# Altium integrated library Capacitor - Ceramic - Sumsung.IntLib: 1421 symbols (part 21 of 22)
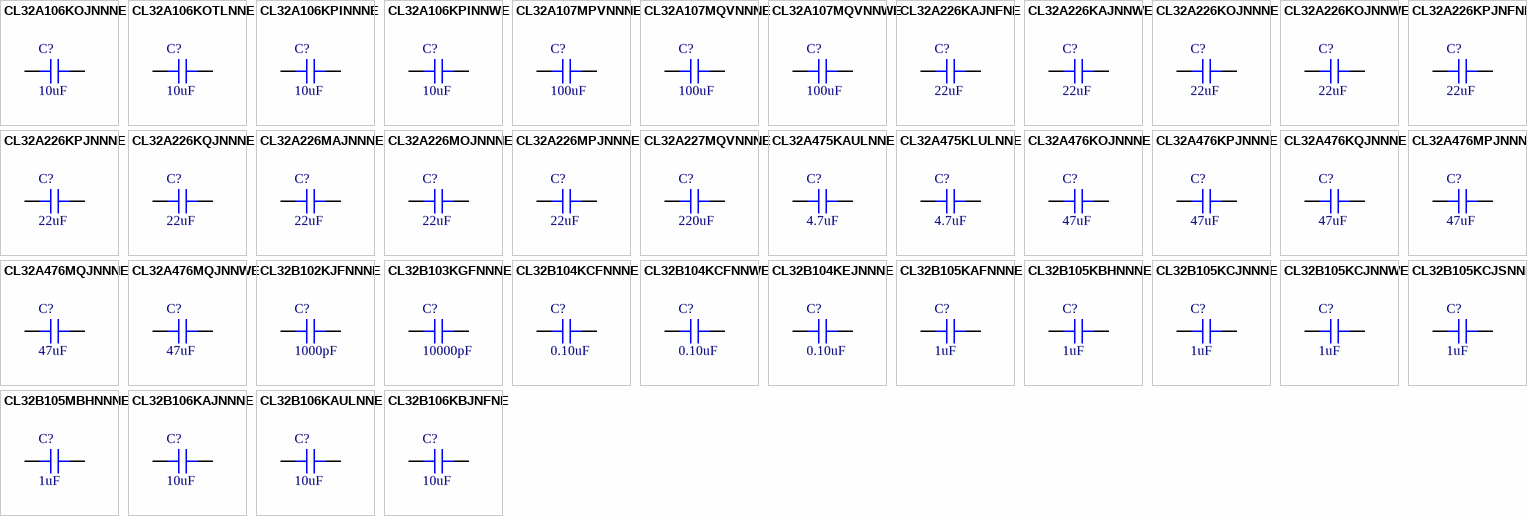
[diagram p55: symbols CL32A106KOJNNNE to CL32B106KBJNFNE]

## CL32A226KAJNNWE
designator C?, comment 22uF
CAP CER 22UF 25V X5R 1210; Part Number: CL32A226KAJNNWE; Manufacturer: Samsung Electro-Mechanics America, Inc.; TemperatureRange: -55C ~ 85C; Tolerance: 10%; Value: 22uF; PartId: 19272; Supplier 1: Digi-Key; Supplier Part Number 1: 1276-3369-2-ND; ComponentLink1Description: Datasheet; ComponentLink1URL: http://www.samsungsem.com/kr/front/downloadcms.do?path=/kr/support/product-search/mlcc/__icsFiles/afieldfile/2014/11/05&fileName=C_CL32A226KAJNNWE.pdf; ComponentLink2Description: Digi-Key Listing; ComponentLink2URL: https://www.digikey.com/product-detail/en/samsung-electro-mechanics-america-inc/CL32A226KAJNNWE/1276-3369-2-ND/3889027; TemperatureCoefficient: X5R; Voltage: 25V; Price: 0.243; Device Package: 1210 (3225 Metric)
footprint CAP 1210/3225 - 2.8MM
pins: 1, 2

## CL32A226KOJNNNE
designator C?, comment 22uF
CAP CER 22UF 16V X5R 1210; Part Number: CL32A226KOJNNNE; Manufacturer: Samsung Electro-Mechanics America, Inc.; TemperatureRange: -55C ~ 85C; Tolerance: 10%; Value: 22uF; PartId: 19198; Supplier 1: Digi-Key; Supplier Part Number 1: 1276-1058-2-ND; ComponentLink1Description: Datasheet; ComponentLink1URL: http://www.samsungsem.com/kr/support/product-search/mlcc/__icsFiles/afieldfile/2016/08/18/S_CL32A226KOJNNNE.pdf; ComponentLink2Description: Digi-Key Listing; ComponentLink2URL: https://www.digikey.com/product-detail/en/samsung-electro-mechanics-america-inc/CL32A226KOJNNNE/1276-1058-2-ND/3886716; TemperatureCoefficient: X5R; Voltage: 16V; Price: 0.243; Device Package: 1210 (3225 Metric)
footprint CAP 1210/3225 - 2.8MM
pins: 1, 2

## CL32A226KOJNNWE
designator C?, comment 22uF
CAP CER 22UF 16V X5R 1210; Part Number: CL32A226KOJNNWE; Manufacturer: Samsung Electro-Mechanics America, Inc.; TemperatureRange: -55C ~ 85C; Tolerance: 10%; Value: 22uF; PartId: 19345; Supplier 1: Digi-Key; Supplier Part Number 1: 1276-3370-2-ND; ComponentLink1Description: Datasheet; ComponentLink1URL: http://www.samsungsem.com/kr/front/downloadcms.do?path=/kr/support/product-search/mlcc/__icsFiles/afieldfile/2014/11/05&fileName=C_CL32A226KOJNNWE.pdf; ComponentLink2Description: Digi-Key Listing; ComponentLink2URL: https://www.digikey.com/product-detail/en/samsung-electro-mechanics-america-inc/CL32A226KOJNNWE/1276-3370-2-ND/3889028; TemperatureCoefficient: X5R; Voltage: 16V; Price: 0.243; Device Package: 1210 (3225 Metric)
footprint CAP 1210/3225 - 2.8MM
pins: 1, 2

## CL32A226KPJNFNE
designator C?, comment 22uF
CAP CER 22UF 10V X5R 1210; Part Number: CL32A226KPJNFNE; Manufacturer: Samsung Electro-Mechanics America, Inc.; TemperatureRange: -55C ~ 85C; Tolerance: 10%; Value: 22uF; PartId: 19343; Supplier 1: Digi-Key; Supplier Part Number 1: 1276-3371-2-ND; ComponentLink1Description: Datasheet; ComponentLink1URL: http://www.samsungsem.com/kr/front/downloadcms.do?path=/kr/support/product-search/mlcc/__icsFiles/afieldfile/2014/11/05&fileName=C_CL32A226KPJNFNE.pdf; ComponentLink2Description: Digi-Key Listing; ComponentLink2URL: https://www.digikey.com/product-detail/en/samsung-electro-mechanics-america-inc/CL32A226KPJNFNE/1276-3371-2-ND/3889029; TemperatureCoefficient: X5R; Voltage: 10V; Price: 0.243; Device Package: 1210 (3225 Metric)
footprint CAP 1210/3225 - 2.8MM
pins: 1, 2

## CL32A226KPJNNNE
designator C?, comment 22uF
CAP CER 22UF 10V X5R 1210; Part Number: CL32A226KPJNNNE; Manufacturer: Samsung Electro-Mechanics America, Inc.; TemperatureRange: -55C ~ 85C; Tolerance: 10%; Value: 22uF; PartId: 19273; Supplier 1: Digi-Key; Supplier Part Number 1: 1276-3372-2-ND; ComponentLink1Description: Datasheet; ComponentLink1URL: http://www.samsungsem.com/kr/front/downloadcms.do?path=/kr/support/product-search/mlcc/__icsFiles/afieldfile/2014/11/05&fileName=C_CL32A226KPJNNNE.pdf; ComponentLink2Description: Digi-Key Listing; ComponentLink2URL: https://www.digikey.com/product-detail/en/samsung-electro-mechanics-america-inc/CL32A226KPJNNNE/1276-3372-2-ND/3889030; TemperatureCoefficient: X5R; Voltage: 10V; Price: 0.243; Device Package: 1210 (3225 Metric)
footprint CAP 1210/3225 - 2.8MM
pins: 1, 2

## CL32A226KQJNNNE
designator C?, comment 22uF
CAP CER 22UF 6.3V X5R 1210; Part Number: CL32A226KQJNNNE; Manufacturer: Samsung Electro-Mechanics America, Inc.; TemperatureRange: -55C ~ 85C; Tolerance: 10%; Value: 22uF; PartId: 19346; Supplier 1: Digi-Key; Supplier Part Number 1: 1276-2886-2-ND; ComponentLink1Description: Datasheet; ComponentLink1URL: //media.digikey.com/pdf/Data%20Sheets/Samsung%20PDFs/CL32A226KQJNNNE_Spec.pdf; ComponentLink2Description: Digi-Key Listing; ComponentLink2URL: https://www.digikey.com/product-detail/en/samsung-electro-mechanics-america-inc/CL32A226KQJNNNE/1276-2886-2-ND/3888544; TemperatureCoefficient: X5R; Voltage: 6.3V; Price: 0.243; Device Package: 1210 (3225 Metric)
footprint CAP 1210/3225 - 2.8MM
pins: 1, 2

## CL32A226MAJNNNE
designator C?, comment 22uF
CAP CER 22UF 25V X5R 1210; Part Number: CL32A226MAJNNNE; Manufacturer: Samsung Electro-Mechanics America, Inc.; TemperatureRange: -55C ~ 85C; Tolerance: 20%; Value: 22uF; PartId: 19199; Supplier 1: Digi-Key; Supplier Part Number 1: 1276-3373-2-ND; ComponentLink1Description: Datasheet; ComponentLink1URL: http://www.samsungsem.com/kr/front/downloadcms.do?path=/kr/support/product-search/mlcc/__icsFiles/afieldfile/2014/11/05&fileName=C_CL32A226MAJNNNE.pdf; ComponentLink2Description: Digi-Key Listing; ComponentLink2URL: https://www.digikey.com/product-detail/en/samsung-electro-mechanics-america-inc/CL32A226MAJNNNE/1276-3373-2-ND/3889031; TemperatureCoefficient: X5R; Voltage: 25V; Price: 0.243; Device Package: 1210 (3225 Metric)
footprint CAP 1210/3225 - 2.8MM
pins: 1, 2

## CL32A226MOJNNNE
designator C?, comment 22uF
CAP CER 22UF 16V X5R 1210; Part Number: CL32A226MOJNNNE; Manufacturer: Samsung Electro-Mechanics America, Inc.; TemperatureRange: -55C ~ 85C; Tolerance: 20%; Value: 22uF; PartId: 19270; Supplier 1: Digi-Key; Supplier Part Number 1: 1276-1851-2-ND; ComponentLink1Description: Datasheet; ComponentLink1URL: http://www.samsungsem.com/kr/front/downloadcms.do?path=/kr/support/product-search/mlcc/__icsFiles/afieldfile/2014/11/05&fileName=C_CL32A226MOJNNNE.pdf; ComponentLink2Description: Digi-Key Listing; ComponentLink2URL: https://www.digikey.com/product-detail/en/samsung-electro-mechanics-america-inc/CL32A226MOJNNNE/1276-1851-2-ND/3887509; TemperatureCoefficient: X5R; Voltage: 16V; Price: 0.2428; Device Package: 1210 (3225 Metric)
footprint CAP 1210/3225 - 2.8MM
pins: 1, 2

## CL32A226MPJNNNE
designator C?, comment 22uF
CAP CER 22UF 10V X5R 1210; Part Number: CL32A226MPJNNNE; Manufacturer: Samsung Electro-Mechanics America, Inc.; TemperatureRange: -55C ~ 85C; Tolerance: 20%; Value: 22uF; PartId: 19269; Supplier 1: Digi-Key; Supplier Part Number 1: 1276-3361-2-ND; ComponentLink1Description: Datasheet; ComponentLink1URL: http://www.samsungsem.com/kr/front/downloadcms.do?path=/kr/support/product-search/mlcc/__icsFiles/afieldfile/2014/11/05&fileName=C_CL32A226MPJNNNE.pdf; ComponentLink2Description: Digi-Key Listing; ComponentLink2URL: https://www.digikey.com/product-detail/en/samsung-electro-mechanics-america-inc/CL32A226MPJNNNE/1276-3361-2-ND/3889019; TemperatureCoefficient: X5R; Voltage: 10V; Price: 0.2302; Device Package: 1210 (3225 Metric)
footprint CAP 1210/3225 - 2.8MM
pins: 1, 2

## CL32A227MQVNNNE
designator C?, comment 220uF
CAP CER 220UF 6.3V X5R 1210; Part Number: CL32A227MQVNNNE; Manufacturer: Samsung Electro-Mechanics America, Inc.; TemperatureRange: -55C ~ 85C; Tolerance: 20%; Value: 220uF; PartId: 19162; Supplier 1: Digi-Key; Supplier Part Number 1: 1276-3375-2-ND; ComponentLink1Description: Datasheet; ComponentLink1URL: http://www.samsungsem.com/kr/support/product-search/mlcc/__icsFiles/afieldfile/2016/08/18/S_CL32A227MQVNNNE.pdf; ComponentLink2Description: Digi-Key Listing; ComponentLink2URL: https://www.digikey.com/product-detail/en/samsung-electro-mechanics-america-inc/CL32A227MQVNNNE/1276-3375-2-ND/3889033; TemperatureCoefficient: X5R; Voltage: 6.3V; Price: 0.7439; Device Package: 1210 (3225 Metric)
footprint CAP 1210/3225 - 2.8MM
pins: 1, 2

## CL32A475KAULNNE
designator C?, comment 4.7uF
CAP CER 4.7UF 25V X5R 1210; Part Number: CL32A475KAULNNE; Manufacturer: Samsung Electro-Mechanics America, Inc.; TemperatureRange: -55C ~ 85C; Tolerance: 10%; Value: 4.7uF; PartId: 18605; Supplier 1: Digi-Key; Supplier Part Number 1: 1276-3314-2-ND; ComponentLink1Description: Datasheet; ComponentLink1URL: http://www.samsungsem.com/kr/front/downloadcms.do?path=/kr/support/product-search/mlcc/__icsFiles/afieldfile/2014/11/05&fileName=C_CL32A475KAULNNE.pdf; ComponentLink2Description: Digi-Key Listing; ComponentLink2URL: https://www.digikey.com/product-detail/en/samsung-electro-mechanics-america-inc/CL32A475KAULNNE/1276-3314-2-ND/3888972; TemperatureCoefficient: X5R; Voltage: 25V; Price: 0.2289; Device Package: 1210 (3225 Metric)
footprint CAP 1210/3225 - 2.0MM
pins: 1, 2

## CL32A475KLULNNE
designator C?, comment 4.7uF
CAP CER 4.7UF 35V X5R 1210; Part Number: CL32A475KLULNNE; Manufacturer: Samsung Electro-Mechanics America, Inc.; TemperatureRange: -55C ~ 85C; Tolerance: 10%; Value: 4.7uF; PartId: 18586; Supplier 1: Digi-Key; Supplier Part Number 1: 1276-3315-2-ND; ComponentLink1Description: Datasheet; ComponentLink1URL: http://www.samsungsem.com/kr/front/downloadcms.do?path=/kr/support/product-search/mlcc/__icsFiles/afieldfile/2014/11/05&fileName=C_CL32A475KLULNNE.pdf; ComponentLink2Description: Digi-Key Listing; ComponentLink2URL: https://www.digikey.com/product-detail/en/samsung-electro-mechanics-america-inc/CL32A475KLULNNE/1276-3315-2-ND/3888973; TemperatureCoefficient: X5R; Voltage: 35V; Price: 0.1379; Device Package: 1210 (3225 Metric)
footprint CAP 1210/3225 - 2.0MM
pins: 1, 2

## CL32A476KOJNNNE
designator C?, comment 47uF
CAP CER 47UF 16V X5R 1210; Part Number: CL32A476KOJNNNE; Manufacturer: Samsung Electro-Mechanics America, Inc.; TemperatureRange: -55C ~ 85C; Tolerance: 10%; Value: 47uF; PartId: 19122; Supplier 1: Digi-Key; Supplier Part Number 1: 1276-3376-2-ND; ComponentLink1Description: Datasheet; ComponentLink1URL: http://www.samsungsem.com/kr/front/downloadcms.do?path=/kr/support/product-search/mlcc/__icsFiles/afieldfile/2014/11/05&fileName=C_CL32A476KOJNNNE.pdf; ComponentLink2Description: Digi-Key Listing; ComponentLink2URL: https://www.digikey.com/product-detail/en/samsung-electro-mechanics-america-inc/CL32A476KOJNNNE/1276-3376-2-ND/3889034; TemperatureCoefficient: X5R; Voltage: 16V; Price: 0.4804; Device Package: 1210 (3225 Metric)
footprint CAP 1210/3225 - 2.8MM
pins: 1, 2

## CL32A476KPJNNNE
designator C?, comment 47uF
CAP CER 47UF 10V X5R 1210; Part Number: CL32A476KPJNNNE; Manufacturer: Samsung Electro-Mechanics America, Inc.; TemperatureRange: -55C ~ 85C; Tolerance: 10%; Value: 47uF; PartId: 19223; Supplier 1: Digi-Key; Supplier Part Number 1: 1276-3377-2-ND; ComponentLink1Description: Datasheet; ComponentLink1URL: http://www.samsungsem.com/kr/front/downloadcms.do?path=/kr/support/product-search/mlcc/__icsFiles/afieldfile/2014/11/05&fileName=C_CL32A476KPJNNNE.pdf; ComponentLink2Description: Digi-Key Listing; ComponentLink2URL: https://www.digikey.com/product-detail/en/samsung-electro-mechanics-america-inc/CL32A476KPJNNNE/1276-3377-2-ND/3889035; TemperatureCoefficient: X5R; Voltage: 10V; Price: 0.3868; Device Package: 1210 (3225 Metric)
footprint CAP 1210/3225 - 2.8MM
pins: 1, 2

## CL32A476KQJNNNE
designator C?, comment 47uF
CAP CER 47UF 6.3V X5R 1210; Part Number: CL32A476KQJNNNE; Manufacturer: Samsung Electro-Mechanics America, Inc.; TemperatureRange: -55C ~ 85C; Tolerance: 10%; Value: 47uF; PartId: 19370; Supplier 1: Digi-Key; Supplier Part Number 1: 1276-3379-2-ND; ComponentLink1Description: Datasheet; ComponentLink1URL: http://www.samsungsem.com/kr/front/downloadcms.do?path=/kr/support/product-search/mlcc/__icsFiles/afieldfile/2014/11/05&fileName=C_CL32A476KQJNNNE.pdf; ComponentLink2Description: Digi-Key Listing; ComponentLink2URL: https://www.digikey.com/product-detail/en/samsung-electro-mechanics-america-inc/CL32A476KQJNNNE/1276-3379-2-ND/3889037; TemperatureCoefficient: X5R; Voltage: 6.3V; Price: 0.4277; Device Package: 1210 (3225 Metric)
footprint CAP 1210/3225 - 2.8MM
pins: 1, 2

## CL32A476MPJNNNE
designator C?, comment 47uF
CAP CER 47UF 10V X5R 1210; Part Number: CL32A476MPJNNNE; Manufacturer: Samsung Electro-Mechanics America, Inc.; TemperatureRange: -55C ~ 85C; Tolerance: 20%; Value: 47uF; PartId: 19094; Supplier 1: Digi-Key; Supplier Part Number 1: 1276-3380-2-ND; ComponentLink1Description: Datasheet; ComponentLink1URL: http://www.samsungsem.com/kr/front/downloadcms.do?path=/kr/support/product-search/mlcc/__icsFiles/afieldfile/2014/11/05&fileName=C_CL32A476MPJNNNE.pdf; ComponentLink2Description: Digi-Key Listing; ComponentLink2URL: https://www.digikey.com/product-detail/en/samsung-electro-mechanics-america-inc/CL32A476MPJNNNE/1276-3380-2-ND/3889038; TemperatureCoefficient: X5R; Voltage: 10V; Price: 0.3611; Device Package: 1210 (3225 Metric)
footprint CAP 1210/3225 - 2.8MM
pins: 1, 2

## CL32A476MQJNNNE
designator C?, comment 47uF
CAP CER 47UF 6.3V X5R 1210; Part Number: CL32A476MQJNNNE; Manufacturer: Samsung Electro-Mechanics America, Inc.; TemperatureRange: -55C ~ 85C; Tolerance: 20%; Value: 47uF; PartId: 19211; Supplier 1: Digi-Key; Supplier Part Number 1: 1276-3381-2-ND; ComponentLink1Description: Datasheet; ComponentLink1URL: http://www.samsungsem.com/kr/front/downloadcms.do?path=/kr/support/product-search/mlcc/__icsFiles/afieldfile/2014/11/05&fileName=C_CL32A476MQJNNNE.pdf; ComponentLink2Description: Digi-Key Listing; ComponentLink2URL: https://www.digikey.com/product-detail/en/samsung-electro-mechanics-america-inc/CL32A476MQJNNNE/1276-3381-2-ND/3889039; TemperatureCoefficient: X5R; Voltage: 6.3V; Price: 0.337; Device Package: 1210 (3225 Metric)
footprint CAP 1210/3225 - 2.8MM
pins: 1, 2

## CL32A476MQJNNWE
designator C?, comment 47uF
CAP CER 47UF 6.3V X5R 1210; Part Number: CL32A476MQJNNWE; Manufacturer: Samsung Electro-Mechanics America, Inc.; TemperatureRange: -55C ~ 85C; Tolerance: 20%; Value: 47uF; PartId: 19360; Supplier 1: Digi-Key; Supplier Part Number 1: 1276-3382-2-ND; ComponentLink1Description: Datasheet; ComponentLink1URL: http://www.samsungsem.com/kr/front/downloadcms.do?path=/kr/support/product-search/mlcc/__icsFiles/afieldfile/2014/11/05&fileName=C_CL32A476MQJNNWE.pdf; ComponentLink2Description: Digi-Key Listing; ComponentLink2URL: https://www.digikey.com/product-detail/en/samsung-electro-mechanics-america-inc/CL32A476MQJNNWE/1276-3382-2-ND/3889040; TemperatureCoefficient: X5R; Voltage: 6.3V; Price: 0.337; Device Package: 1210 (3225 Metric)
footprint CAP 1210/3225 - 2.8MM
pins: 1, 2

## CL32B102KJFNNNE
designator C?, comment 1000pF
CAP CER 1000PF 2KV X7R 1210; Part Number: CL32B102KJFNNNE; Manufacturer: Samsung Electro-Mechanics America, Inc.; TemperatureRange: -55C ~ 125C; Tolerance: 10%; Voltage: 2000V (2kV); Value: 1000pF; PartId: 18297; Supplier 1: Digi-Key; Supplier Part Number 1: 1276-3316-2-ND; ComponentLink1Description: Datasheet; ComponentLink1URL: http://www.samsungsem.com/kr/front/downloadcms.do?path=/kr/support/product-search/mlcc/__icsFiles/afieldfile/2014/11/05&fileName=C_CL32B102KJFNNNE.pdf; ComponentLink2Description: Digi-Key Listing; ComponentLink2URL: https://www.digikey.com/product-detail/en/samsung-electro-mechanics-america-inc/CL32B102KJFNNNE/1276-3316-2-ND/3888974; TemperatureCoefficient: X7R; Price: 0.1069; Device Package: 1210 (3225 Metric)
footprint CAP 1210/3225 - 1.6MM
pins: 1, 2

## CL32B103KGFNNNE
designator C?, comment 10000pF
CAP CER 10000PF 500V X7R 1210; Part Number: CL32B103KGFNNNE; Manufacturer: Samsung Electro-Mechanics America, Inc.; TemperatureRange: -55C ~ 125C; Tolerance: 10%; Value: 10000pF; PartId: 18322; Supplier 1: Digi-Key; Supplier Part Number 1: 1276-3317-2-ND; ComponentLink1Description: Datasheet; ComponentLink1URL: //media.digikey.com/pdf/Data%20Sheets/Samsung%20PDFs/MLCC_Catalog_2015.pdf; ComponentLink2Description: Digi-Key Listing; ComponentLink2URL: https://www.digikey.com/product-detail/en/samsung-electro-mechanics-america-inc/CL32B103KGFNNNE/1276-3317-2-ND/3888975; TemperatureCoefficient: X7R; Voltage: 500V; Price: 0.1732; Device Package: 1210 (3225 Metric)
footprint CAP 1210/3225 - 1.6MM
pins: 1, 2

## CL32B104KCFNNNE
designator C?, comment 0.10uF
CAP CER 0.1UF 100V X7R 1210; Part Number: CL32B104KCFNNNE; Manufacturer: Samsung Electro-Mechanics America, Inc.; TemperatureRange: -55C ~ 125C; Tolerance: 10%; Value: 0.10uF; PartId: 18313; Supplier 1: Digi-Key; Supplier Part Number 1: 1276-1810-2-ND; ComponentLink1Description: Datasheet; ComponentLink1URL: //media.digikey.com/pdf/Data%20Sheets/Samsung%20PDFs/MLCC_Catalog_2015.pdf; ComponentLink2Description: Digi-Key Listing; ComponentLink2URL: https://www.digikey.com/product-detail/en/samsung-electro-mechanics-america-inc/CL32B104KCFNNNE/1276-1810-2-ND/3887468; TemperatureCoefficient: X7R; Voltage: 100V; Price: 0.1022; Device Package: 1210 (3225 Metric)
footprint CAP 1210/3225 - 1.6MM
pins: 1, 2

## CL32B104KCFNNWE
designator C?, comment 0.10uF
CAP CER 0.1UF 100V X7R 1210; Part Number: CL32B104KCFNNWE; Manufacturer: Samsung Electro-Mechanics America, Inc.; TemperatureRange: -55C ~ 125C; Tolerance: 10%; Value: 0.10uF; PartId: 18335; Supplier 1: Digi-Key; Supplier Part Number 1: 1276-3319-2-ND; ComponentLink1Description: Datasheet; ComponentLink1URL: //media.digikey.com/pdf/Data%20Sheets/Samsung%20PDFs/MLCC_Catalog_2015.pdf; ComponentLink2Description: Digi-Key Listing; ComponentLink2URL: https://www.digikey.com/product-detail/en/samsung-electro-mechanics-america-inc/CL32B104KCFNNWE/1276-3319-2-ND/3888977; TemperatureCoefficient: X7R; Voltage: 100V; Price: 0.1022; Device Package: 1210 (3225 Metric)
footprint CAP 1210/3225 - 1.6MM
pins: 1, 2

## CL32B104KEJNNNE
designator C?, comment 0.10uF
CAP CER 0.1UF 250V X7R 1210; Part Number: CL32B104KEJNNNE; Manufacturer: Samsung Electro-Mechanics America, Inc.; TemperatureRange: -55C ~ 125C; Tolerance: 10%; Value: 0.10uF; PartId: 19331; Supplier 1: Digi-Key; Supplier Part Number 1: 1276-3383-2-ND; ComponentLink1Description: Datasheet; ComponentLink1URL: http://www.samsungsem.com/kr/front/downloadcms.do?path=/kr/support/product-search/mlcc/__icsFiles/afieldfile/2014/11/05&fileName=C_CL32B104KEJNNNE.pdf; ComponentLink2Description: Digi-Key Listing; ComponentLink2URL: https://www.digikey.com/product-detail/en/samsung-electro-mechanics-america-inc/CL32B104KEJNNNE/1276-3383-2-ND/3889041; TemperatureCoefficient: X7R; Voltage: 250V; Price: 0.1383; Device Package: 1210 (3225 Metric)
footprint CAP 1210/3225 - 2.8MM
pins: 1, 2

## CL32B105KAFNNNE
designator C?, comment 1uF
CAP CER 1UF 25V X7R 1210; Part Number: CL32B105KAFNNNE; Manufacturer: Samsung Electro-Mechanics America, Inc.; TemperatureRange: -55C ~ 125C; Tolerance: 10%; Value: 1uF; PartId: 18295; Supplier 1: Digi-Key; Supplier Part Number 1: 1276-1850-2-ND; ComponentLink1Description: Datasheet; ComponentLink1URL: http://www.samsungsem.com/kr/front/downloadcms.do?path=/kr/support/product-search/mlcc/__icsFiles/afieldfile/2014/11/05&fileName=C_CL32B105KAFNNNE.pdf; ComponentLink2Description: Digi-Key Listing; ComponentLink2URL: https://www.digikey.com/product-detail/en/samsung-electro-mechanics-america-inc/CL32B105KAFNNNE/1276-1850-2-ND/3887508; TemperatureCoefficient: X7R; Voltage: 25V; Price: 0.0933; Device Package: 1210 (3225 Metric)
footprint CAP 1210/3225 - 1.6MM
pins: 1, 2

## CL32B105KBHNNNE
designator C?, comment 1uF
CAP CER 1UF 50V X7R 1210; Part Number: CL32B105KBHNNNE; Manufacturer: Samsung Electro-Mechanics America, Inc.; TemperatureRange: -55C ~ 125C; Tolerance: 10%; Value: 1uF; PartId: 18429; Supplier 1: Digi-Key; Supplier Part Number 1: 1276-1811-2-ND; ComponentLink1Description: Datasheet; ComponentLink1URL: //media.digikey.com/pdf/Data%20Sheets/Samsung%20PDFs/MLCC_Catalog_2015.pdf; ComponentLink2Description: Digi-Key Listing; ComponentLink2URL: https://www.digikey.com/product-detail/en/samsung-electro-mechanics-america-inc/CL32B105KBHNNNE/1276-1811-2-ND/3887469; TemperatureCoefficient: X7R; Voltage: 50V; Price: 0.0978; Device Package: 1210 (3225 Metric)
footprint CAP 1210/3225 - 1.8MM
pins: 1, 2

## CL32B105KCJNNNE
designator C?, comment 1uF
CAP CER 1UF 100V X7R 1210; Part Number: CL32B105KCJNNNE; Manufacturer: Samsung Electro-Mechanics America, Inc.; TemperatureRange: -55C ~ 125C; Tolerance: 10%; Value: 1uF; PartId: 19189; Supplier 1: Digi-Key; Supplier Part Number 1: 1276-1812-2-ND; ComponentLink1Description: Datasheet; ComponentLink1URL: http://www.samsungsem.com/kr/front/downloadcms.do?path=/kr/support/product-search/mlcc/__icsFiles/afieldfile/2014/11/05&fileName=C_CL32B105KCJNNNE.pdf; ComponentLink2Description: Digi-Key Listing; ComponentLink2URL: https://www.digikey.com/product-detail/en/samsung-electro-mechanics-america-inc/CL32B105KCJNNNE/1276-1812-2-ND/3887470; TemperatureCoefficient: X7R; Voltage: 100V; Price: 0.1875; Device Package: 1210 (3225 Metric)
footprint CAP 1210/3225 - 2.8MM
pins: 1, 2

## CL32B105KCJNNWE
designator C?, comment 1uF
CAP CER 1UF 100V X7R 1210; Part Number: CL32B105KCJNNWE; Manufacturer: Samsung Electro-Mechanics America, Inc.; TemperatureRange: -55C ~ 125C; Tolerance: 10%; Value: 1uF; PartId: 19336; Supplier 1: Digi-Key; Supplier Part Number 1: 1276-3384-2-ND; ComponentLink1Description: Datasheet; ComponentLink1URL: http://www.samsungsem.com/kr/front/downloadcms.do?path=/kr/support/product-search/mlcc/__icsFiles/afieldfile/2014/11/05&fileName=C_CL32B105KCJNNWE.pdf; ComponentLink2Description: Digi-Key Listing; ComponentLink2URL: https://www.digikey.com/product-detail/en/samsung-electro-mechanics-america-inc/CL32B105KCJNNWE/1276-3384-2-ND/3889042; TemperatureCoefficient: X7R; Voltage: 100V; Price: 0.1875; Device Package: 1210 (3225 Metric)
footprint CAP 1210/3225 - 2.8MM
pins: 1, 2

## CL32B105KCJSNNE
designator C?, comment 1uF
CAP CER 1UF 100V X7R 1210; Part Number: CL32B105KCJSNNE; Manufacturer: Samsung Electro-Mechanics America, Inc.; TemperatureRange: -55C ~ 125C; Tolerance: 10%; Value: 1uF; PartId: 19266; Supplier 1: Digi-Key; Supplier Part Number 1: 1276-2883-2-ND; ComponentLink1Description: Datasheet; ComponentLink1URL: //media.digikey.com/pdf/Data%20Sheets/Samsung%20PDFs/CL32B105KCJSNNE_Spec.pdf; ComponentLink2Description: Digi-Key Listing; ComponentLink2URL: https://www.digikey.com/product-detail/en/samsung-electro-mechanics-america-inc/CL32B105KCJSNNE/1276-2883-2-ND/3888541; TemperatureCoefficient: X7R; Voltage: 100V; Price: 0.1875; Device Package: 1210 (3225 Metric)
footprint CAP 1210/3225 - 2.8MM
pins: 1, 2

## CL32B105MBHNNNE
designator C?, comment 1uF
CAP CER 1UF 50V X7R 1210; Part Number: CL32B105MBHNNNE; Manufacturer: Samsung Electro-Mechanics America, Inc.; TemperatureRange: -55C ~ 125C; Tolerance: 20%; Value: 1uF; PartId: 18549; Supplier 1: Digi-Key; Supplier Part Number 1: 1276-3321-2-ND; ComponentLink1Description: Datasheet; ComponentLink1URL: http://www.samsungsem.com/kr/front/downloadcms.do?path=/kr/support/product-search/mlcc/__icsFiles/afieldfile/2014/11/05&fileName=C_CL32B105MBHNNNE.pdf; ComponentLink2Description: Digi-Key Listing; ComponentLink2URL: https://www.digikey.com/product-detail/en/samsung-electro-mechanics-america-inc/CL32B105MBHNNNE/1276-3321-2-ND/3888979; TemperatureCoefficient: X7R; Voltage: 50V; Price: 0.0784; Device Package: 1210 (3225 Metric)
footprint CAP 1210/3225 - 1.8MM
pins: 1, 2

## CL32B106KAJNNNE
designator C?, comment 10uF
CAP CER 10UF 25V X7R 1210; Part Number: CL32B106KAJNNNE; Manufacturer: Samsung Electro-Mechanics America, Inc.; TemperatureRange: -55C ~ 125C; Tolerance: 10%; Value: 10uF; PartId: 19187; Supplier 1: Digi-Key; Supplier Part Number 1: 1276-1807-2-ND; ComponentLink1Description: Datasheet; ComponentLink1URL: http://www.samsungsem.com/kr/front/downloadcms.do?path=/kr/support/product-search/mlcc/__icsFiles/afieldfile/2014/11/05&fileName=C_CL32B106KAJNNNE.pdf; ComponentLink2Description: Digi-Key Listing; ComponentLink2URL: https://www.digikey.com/product-detail/en/samsung-electro-mechanics-america-inc/CL32B106KAJNNNE/1276-1807-2-ND/3887465; TemperatureCoefficient: X7R; Voltage: 25V; Price: 0.1715; Device Package: 1210 (3225 Metric)
footprint CAP 1210/3225 - 2.8MM
pins: 1, 2

## CL32B106KAULNNE
designator C?, comment 10uF
CAP CER 10UF 25V X7R 1210; Part Number: CL32B106KAULNNE; Manufacturer: Samsung Electro-Mechanics America, Inc.; TemperatureRange: -55C ~ 125C; Tolerance: 10%; Value: 10uF; PartId: 18574; Supplier 1: Digi-Key; Supplier Part Number 1: 1276-3322-2-ND; ComponentLink1Description: Datasheet; ComponentLink1URL: http://www.samsungsem.com/kr/support/product-search/mlcc/__icsFiles/afieldfile/2016/08/18/S_CL32B106KAULNNE.pdf; ComponentLink2Description: Digi-Key Listing; ComponentLink2URL: https://www.digikey.com/product-detail/en/samsung-electro-mechanics-america-inc/CL32B106KAULNNE/1276-3322-2-ND/3888980; TemperatureCoefficient: X7R; Voltage: 25V; Price: 0.1625; Device Package: 1210 (3225 Metric)
footprint CAP 1210/3225 - 2.0MM
pins: 1, 2

## CL32B106KBJNFNE
designator C?, comment 10uF
CAP CER 10UF 50V X7R 1210; Part Number: CL32B106KBJNFNE; Manufacturer: Samsung Electro-Mechanics America, Inc.; TemperatureRange: -55C ~ 125C; Tolerance: 10%; Value: 10uF; PartId: 19224; Supplier 1: Digi-Key; Supplier Part Number 1: 1276-3386-2-ND; ComponentLink1Description: Datasheet; ComponentLink1URL: http://www.samsungsem.com/kr/front/downloadcms.do?path=/kr/support/product-search/mlcc/__icsFiles/afieldfile/2014/11/05&fileName=C_CL32B106KBJNFNE.pdf; ComponentLink2Description: Digi-Key Listing; ComponentLink2URL: https://www.digikey.com/product-detail/en/samsung-electro-mechanics-america-inc/CL32B106KBJNFNE/1276-3386-2-ND/3889044; TemperatureCoefficient: X7R; Voltage: 50V; Price: 0.3967; Device Package: 1210 (3225 Metric)
footprint CAP 1210/3225 - 2.8MM
pins: 1, 2

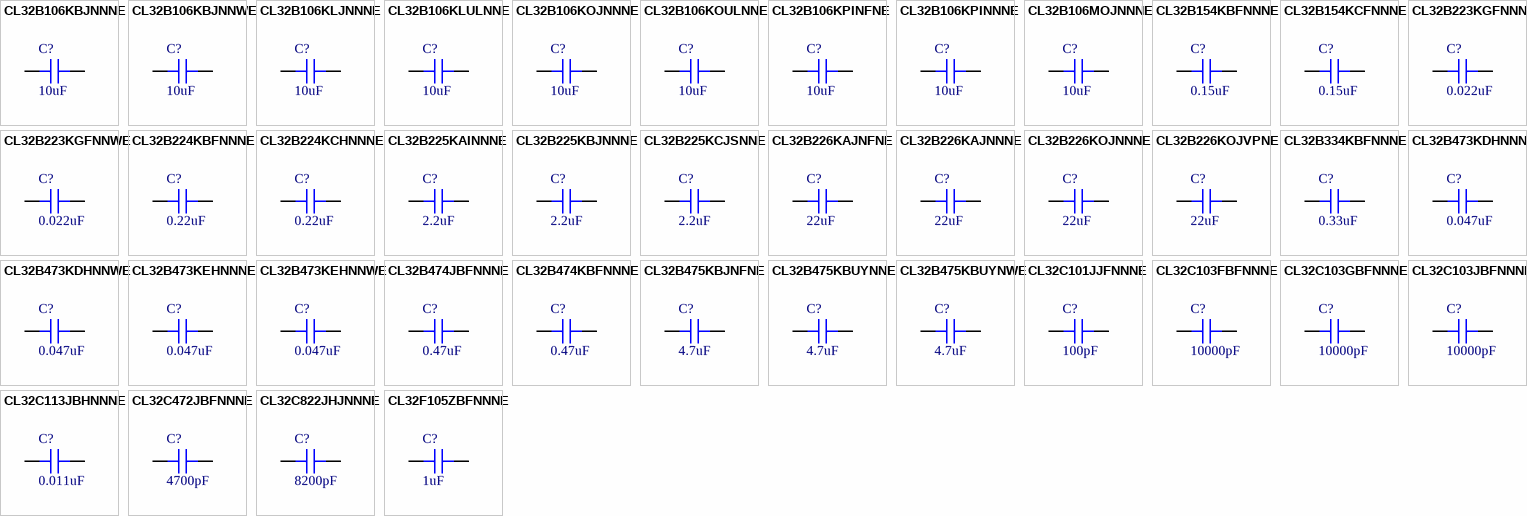
[diagram p34: symbols CL32B106KBJNNNE to CL32F105ZBFNNNE]

## CL32B106KBJNNNE
designator C?, comment 10uF
CAP CER 10UF 50V X7R 1210; Part Number: CL32B106KBJNNNE; Manufacturer: Samsung Electro-Mechanics America, Inc.; TemperatureRange: -55C ~ 125C; Tolerance: 10%; Value: 10uF; PartId: 19085; Supplier 1: Digi-Key; Supplier Part Number 1: 1276-3387-2-ND; ComponentLink1Description: Datasheet; ComponentLink1URL: //media.digikey.com/pdf/Data%20Sheets/Samsung%20PDFs/MLCC_Catalog_2015.pdf; ComponentLink2Description: Digi-Key Listing; ComponentLink2URL: https://www.digikey.com/product-detail/en/samsung-electro-mechanics-america-inc/CL32B106KBJNNNE/1276-3387-2-ND/3889045; TemperatureCoefficient: X7R; Voltage: 50V; Price: 0.337; Device Package: 1210 (3225 Metric)
footprint CAP 1210/3225 - 2.8MM
pins: 1, 2

## CL32B106KBJNNWE
designator C?, comment 10uF
CAP CER 10UF 50V X7R 1210; Part Number: CL32B106KBJNNWE; Manufacturer: Samsung Electro-Mechanics America, Inc.; TemperatureRange: -55C ~ 125C; Tolerance: 10%; Value: 10uF; PartId: 19058; Supplier 1: Digi-Key; Supplier Part Number 1: 1276-3388-2-ND; ComponentLink1Description: Datasheet; ComponentLink1URL: http://www.samsungsem.com/kr/front/downloadcms.do?path=/kr/support/product-search/mlcc/__icsFiles/afieldfile/2014/11/05&fileName=C_CL32B106KBJNNWE.pdf; ComponentLink2Description: Digi-Key Listing; ComponentLink2URL: https://www.digikey.com/product-detail/en/samsung-electro-mechanics-america-inc/CL32B106KBJNNWE/1276-3388-2-ND/3889046; TemperatureCoefficient: X7R; Voltage: 50V; Price: 0.266; Device Package: 1210 (3225 Metric)
footprint CAP 1210/3225 - 2.8MM
pins: 1, 2

## CL32B106KLJNNNE
designator C?, comment 10uF
CAP CER 10UF 35V X7R 1210; Part Number: CL32B106KLJNNNE; Manufacturer: Samsung Electro-Mechanics America, Inc.; TemperatureRange: -55C ~ 125C; Tolerance: 10%; Value: 10uF; PartId: 19060; Supplier 1: Digi-Key; Supplier Part Number 1: 1276-3389-2-ND; ComponentLink1Description: Datasheet; ComponentLink1URL: http://www.samsungsem.com/kr/front/downloadcms.do?path=/kr/support/product-search/mlcc/__icsFiles/afieldfile/2014/11/05&fileName=C_CL32B106KLJNNNE.pdf; ComponentLink2Description: Digi-Key Listing; ComponentLink2URL: https://www.digikey.com/product-detail/en/samsung-electro-mechanics-america-inc/CL32B106KLJNNNE/1276-3389-2-ND/3889047; TemperatureCoefficient: X7R; Voltage: 35V; Price: 0.266; Device Package: 1210 (3225 Metric)
footprint CAP 1210/3225 - 2.8MM
pins: 1, 2

## CL32B106KLULNNE
designator C?, comment 10uF
CAP CER 10UF 35V X7R 1210; Part Number: CL32B106KLULNNE; Manufacturer: Samsung Electro-Mechanics America, Inc.; TemperatureRange: -55C ~ 125C; Tolerance: 10%; Value: 10uF; PartId: 18560; Supplier 1: Digi-Key; Supplier Part Number 1: 1276-3323-2-ND; ComponentLink1Description: Datasheet; ComponentLink1URL: http://www.samsungsem.com/kr/front/downloadcms.do?path=/kr/support/product-search/mlcc/__icsFiles/afieldfile/2014/11/05&fileName=C_CL32B106KLULNNE.pdf; ComponentLink2Description: Digi-Key Listing; ComponentLink2URL: https://www.digikey.com/product-detail/en/samsung-electro-mechanics-america-inc/CL32B106KLULNNE/1276-3323-2-ND/3888981; TemperatureCoefficient: X7R; Voltage: 35V; Price: 0.2424; Device Package: 1210 (3225 Metric)
footprint CAP 1210/3225 - 2.0MM
pins: 1, 2

## CL32B106KOJNNNE
designator C?, comment 10uF
CAP CER 10UF 16V X7R 1210; Part Number: CL32B106KOJNNNE; Manufacturer: Samsung Electro-Mechanics America, Inc.; TemperatureRange: -55C ~ 125C; Tolerance: 10%; Value: 10uF; PartId: 19186; Supplier 1: Digi-Key; Supplier Part Number 1: 1276-1150-2-ND; ComponentLink1Description: Datasheet; ComponentLink1URL: http://www.samsungsem.com/kr/front/downloadcms.do?path=/kr/support/product-search/mlcc/__icsFiles/afieldfile/2014/11/05&fileName=C_CL32B106KOJNNNE.pdf; ComponentLink2Description: Digi-Key Listing; ComponentLink2URL: https://www.digikey.com/product-detail/en/samsung-electro-mechanics-america-inc/CL32B106KOJNNNE/1276-1150-2-ND/3886808; TemperatureCoefficient: X7R; Voltage: 16V; Price: 0.1715; Device Package: 1210 (3225 Metric)
footprint CAP 1210/3225 - 2.8MM
pins: 1, 2

## CL32B106KOULNNE
designator C?, comment 10uF
CAP CER 10UF 16V X7R 1210; Part Number: CL32B106KOULNNE; Manufacturer: Samsung Electro-Mechanics America, Inc.; TemperatureRange: -55C ~ 125C; Tolerance: 10%; Value: 10uF; PartId: 18587; Supplier 1: Digi-Key; Supplier Part Number 1: 1276-3324-2-ND; ComponentLink1Description: Datasheet; ComponentLink1URL: //media.digikey.com/pdf/Data%20Sheets/Samsung%20PDFs/MLCC_Catalog_2015.pdf; ComponentLink2Description: Digi-Key Listing; ComponentLink2URL: https://www.digikey.com/product-detail/en/samsung-electro-mechanics-america-inc/CL32B106KOULNNE/1276-3324-2-ND/3888982; TemperatureCoefficient: X7R; Voltage: 16V; Price: 0.1625; Device Package: 1210 (3225 Metric)
footprint CAP 1210/3225 - 2.0MM
pins: 1, 2

## CL32B106KPINFNE
designator C?, comment 10uF
CAP CER 10UF 10V X7R 1210; Part Number: CL32B106KPINFNE; Manufacturer: Samsung Electro-Mechanics America, Inc.; TemperatureRange: -55C ~ 125C; Tolerance: 10%; Value: 10uF; PartId: 18798; Supplier 1: Digi-Key; Supplier Part Number 1: 1276-3325-2-ND; ComponentLink1Description: Datasheet; ComponentLink1URL: http://www.samsungsem.com/kr/front/downloadcms.do?path=/kr/support/product-search/mlcc/__icsFiles/afieldfile/2014/11/05&fileName=C_CL32B106KPINFNE.pdf; ComponentLink2Description: Digi-Key Listing; ComponentLink2URL: https://www.digikey.com/product-detail/en/samsung-electro-mechanics-america-inc/CL32B106KPINFNE/1276-3325-2-ND/3888983; TemperatureCoefficient: X7R; Voltage: 10V; Price: 0.1625; Device Package: 1210 (3225 Metric)
footprint CAP 1210/3225 - 2.2MM
pins: 1, 2

## CL32B106KPINNNE
designator C?, comment 10uF
CAP CER 10UF 10V X7R 1210; Part Number: CL32B106KPINNNE; Manufacturer: Samsung Electro-Mechanics America, Inc.; TemperatureRange: -55C ~ 125C; Tolerance: 10%; Value: 10uF; PartId: 18757; Supplier 1: Digi-Key; Supplier Part Number 1: 1276-3326-2-ND; ComponentLink1Description: Datasheet; ComponentLink1URL: http://www.samsungsem.com/kr/front/downloadcms.do?path=/kr/support/product-search/mlcc/__icsFiles/afieldfile/2014/11/05&fileName=C_CL32B106KPINNNE.pdf; ComponentLink2Description: Digi-Key Listing; ComponentLink2URL: https://www.digikey.com/product-detail/en/samsung-electro-mechanics-america-inc/CL32B106KPINNNE/1276-3326-2-ND/3888984; TemperatureCoefficient: X7R; Voltage: 10V; Price: 0.1625; Device Package: 1210 (3225 Metric)
footprint CAP 1210/3225 - 2.2MM
pins: 1, 2

## CL32B106MOJNNNE
designator C?, comment 10uF
CAP CER 10UF 16V X7R 1210; Part Number: CL32B106MOJNNNE; Manufacturer: Samsung Electro-Mechanics America, Inc.; TemperatureRange: -55C ~ 125C; Tolerance: 20%; Value: 10uF; PartId: 19333; Supplier 1: Digi-Key; Supplier Part Number 1: 1276-3390-2-ND; ComponentLink1Description: Datasheet; ComponentLink1URL: http://www.samsungsem.com/kr/front/downloadcms.do?path=/kr/support/product-search/mlcc/__icsFiles/afieldfile/2014/11/05&fileName=C_CL32B106MOJNNNE.pdf; ComponentLink2Description: Digi-Key Listing; ComponentLink2URL: https://www.digikey.com/product-detail/en/samsung-electro-mechanics-america-inc/CL32B106MOJNNNE/1276-3390-2-ND/3889048; TemperatureCoefficient: X7R; Voltage: 16V; Price: 0.1715; Device Package: 1210 (3225 Metric)
footprint CAP 1210/3225 - 2.8MM
pins: 1, 2

## CL32B154KBFNNNE
designator C?, comment 0.15uF
CAP CER 0.15UF 50V X7R 1210; Part Number: CL32B154KBFNNNE; Manufacturer: Samsung Electro-Mechanics America, Inc.; TemperatureRange: -55C ~ 125C; Tolerance: 10%; Value: 0.15uF; PartId: 18336; Supplier 1: Digi-Key; Supplier Part Number 1: 1276-3328-2-ND; ComponentLink1Description: Datasheet; ComponentLink1URL: http://www.samsungsem.com/kr/front/downloadcms.do?path=/kr/support/product-search/mlcc/__icsFiles/afieldfile/2014/11/05&fileName=C_CL32B154KBFNNNE.pdf; ComponentLink2Description: Digi-Key Listing; ComponentLink2URL: https://www.digikey.com/product-detail/en/samsung-electro-mechanics-america-inc/CL32B154KBFNNNE/1276-3328-2-ND/3888986; TemperatureCoefficient: X7R; Voltage: 50V; Price: 0.1154; Device Package: 1210 (3225 Metric)
footprint CAP 1210/3225 - 1.6MM
pins: 1, 2

## CL32B154KCFNNNE
designator C?, comment 0.15uF
CAP CER 0.15UF 100V X7R 1210; Part Number: CL32B154KCFNNNE; Manufacturer: Samsung Electro-Mechanics America, Inc.; TemperatureRange: -55C ~ 125C; Tolerance: 10%; Value: 0.15uF; PartId: 18319; Supplier 1: Digi-Key; Supplier Part Number 1: 1276-3329-2-ND; ComponentLink1Description: Datasheet; ComponentLink1URL: http://www.samsungsem.com/kr/front/downloadcms.do?path=/kr/support/product-search/mlcc/__icsFiles/afieldfile/2014/11/05&fileName=C_CL32B154KCFNNNE.pdf; ComponentLink2Description: Digi-Key Listing; ComponentLink2URL: https://www.digikey.com/product-detail/en/samsung-electro-mechanics-america-inc/CL32B154KCFNNNE/1276-3329-2-ND/3888987; TemperatureCoefficient: X7R; Voltage: 100V; Price: 0.1588; Device Package: 1210 (3225 Metric)
footprint CAP 1210/3225 - 1.6MM
pins: 1, 2

## CL32B223KGFNNNE
designator C?, comment 0.022uF
CAP CER 0.022UF 500V X7R 1210; Part Number: CL32B223KGFNNNE; Manufacturer: Samsung Electro-Mechanics America, Inc.; TemperatureRange: -55C ~ 125C; Tolerance: 10%; Value: 0.022uF; PartId: 18320; Supplier 1: Digi-Key; Supplier Part Number 1: 1276-3330-2-ND; ComponentLink1Description: Datasheet; ComponentLink1URL: http://www.samsungsem.com/kr/front/downloadcms.do?path=/kr/support/product-search/mlcc/__icsFiles/afieldfile/2014/11/05&fileName=C_CL32B223KGFNNNE.pdf; ComponentLink2Description: Digi-Key Listing; ComponentLink2URL: https://www.digikey.com/product-detail/en/samsung-electro-mechanics-america-inc/CL32B223KGFNNNE/1276-3330-2-ND/3888988; TemperatureCoefficient: X7R; Voltage: 500V; Price: 0.1671; Device Package: 1210 (3225 Metric)
footprint CAP 1210/3225 - 1.6MM
pins: 1, 2

## CL32B223KGFNNWE
designator C?, comment 0.022uF
CAP CER 0.022UF 500V X7R 1210; Part Number: CL32B223KGFNNWE; Manufacturer: Samsung Electro-Mechanics America, Inc.; TemperatureRange: -55C ~ 125C; Tolerance: 10%; Value: 0.022uF; PartId: 18321; Supplier 1: Digi-Key; Supplier Part Number 1: 1276-3331-2-ND; ComponentLink1Description: Datasheet; ComponentLink1URL: http://www.samsungsem.com/kr/front/downloadcms.do?path=/kr/support/product-search/mlcc/__icsFiles/afieldfile/2014/11/05&fileName=C_CL32B223KGFNNWE.pdf; ComponentLink2Description: Digi-Key Listing; ComponentLink2URL: https://www.digikey.com/product-detail/en/samsung-electro-mechanics-america-inc/CL32B223KGFNNWE/1276-3331-2-ND/3888989; TemperatureCoefficient: X7R; Voltage: 500V; Price: 0.1671; Device Package: 1210 (3225 Metric)
footprint CAP 1210/3225 - 1.6MM
pins: 1, 2

## CL32B224KBFNNNE
designator C?, comment 0.22uF
CAP CER 0.22UF 50V X7R 1210; Part Number: CL32B224KBFNNNE; Manufacturer: Samsung Electro-Mechanics America, Inc.; TemperatureRange: -55C ~ 125C; Tolerance: 10%; Value: 0.22uF; PartId: 18377; Supplier 1: Digi-Key; Supplier Part Number 1: 1276-1777-2-ND; ComponentLink1Description: Datasheet; ComponentLink1URL: //media.digikey.com/pdf/Data%20Sheets/Samsung%20PDFs/MLCC_Catalog_2015.pdf; ComponentLink2Description: Digi-Key Listing; ComponentLink2URL: https://www.digikey.com/product-detail/en/samsung-electro-mechanics-america-inc/CL32B224KBFNNNE/1276-1777-2-ND/3887435; TemperatureCoefficient: X7R; Voltage: 50V; Price: 0.0892; Device Package: 1210 (3225 Metric)
footprint CAP 1210/3225 - 1.6MM
pins: 1, 2

## CL32B224KCHNNNE
designator C?, comment 0.22uF
CAP CER 0.22UF 100V X7R 1210; Part Number: CL32B224KCHNNNE; Manufacturer: Samsung Electro-Mechanics America, Inc.; TemperatureRange: -55C ~ 125C; Tolerance: 10%; Value: 0.22uF; PartId: 18467; Supplier 1: Digi-Key; Supplier Part Number 1: 1276-3333-2-ND; ComponentLink1Description: Datasheet; ComponentLink1URL: http://www.samsungsem.com/kr/front/downloadcms.do?path=/kr/support/product-search/mlcc/__icsFiles/afieldfile/2014/11/05&fileName=C_CL32B224KCHNNNE.pdf; ComponentLink2Description: Digi-Key Listing; ComponentLink2URL: https://www.digikey.com/product-detail/en/samsung-electro-mechanics-america-inc/CL32B224KCHNNNE/1276-3333-2-ND/3888991; TemperatureCoefficient: X7R; Voltage: 100V; Price: 0.1422; Device Package: 1210 (3225 Metric)
footprint CAP 1210/3225 - 1.8MM
pins: 1, 2

## CL32B225KAINNNE
designator C?, comment 2.2uF
CAP CER 2.2UF 25V X7R 1210; Part Number: CL32B225KAINNNE; Manufacturer: Samsung Electro-Mechanics America, Inc.; TemperatureRange: -55C ~ 125C; Tolerance: 10%; Value: 2.2uF; PartId: 18705; Supplier 1: Digi-Key; Supplier Part Number 1: 1276-1313-2-ND; ComponentLink1Description: Datasheet; ComponentLink1URL: //media.digikey.com/pdf/Data%20Sheets/Samsung%20PDFs/MLCC_Catalog_2015.pdf; ComponentLink2Description: Digi-Key Listing; ComponentLink2URL: https://www.digikey.com/product-detail/en/samsung-electro-mechanics-america-inc/CL32B225KAINNNE/1276-1313-2-ND/3886971; TemperatureCoefficient: X7R; Voltage: 25V; Price: 0.13; Device Package: 1210 (3225 Metric)
footprint CAP 1210/3225 - 2.2MM
pins: 1, 2

## CL32B225KBJNNNE
designator C?, comment 2.2uF
CAP CER 2.2UF 50V X7R 1210; Part Number: CL32B225KBJNNNE; Manufacturer: Samsung Electro-Mechanics America, Inc.; TemperatureRange: -55C ~ 125C; Tolerance: 10%; Value: 2.2uF; PartId: 19339; Supplier 1: Digi-Key; Supplier Part Number 1: 1276-2884-2-ND; ComponentLink1Description: Datasheet; ComponentLink1URL: //media.digikey.com/pdf/Data%20Sheets/Samsung%20PDFs/CL32B225KBJNNNE_Spec.pdf; ComponentLink2Description: Digi-Key Listing; ComponentLink2URL: https://www.digikey.com/product-detail/en/samsung-electro-mechanics-america-inc/CL32B225KBJNNNE/1276-2884-2-ND/3888542; TemperatureCoefficient: X7R; Voltage: 50V; Price: 0.2213; Device Package: 1210 (3225 Metric)
footprint CAP 1210/3225 - 2.8MM
pins: 1, 2

## CL32B225KCJSNNE
designator C?, comment 2.2uF
CAP CER 2.2UF 100V X7R 1210; Part Number: CL32B225KCJSNNE; Manufacturer: Samsung Electro-Mechanics America, Inc.; TemperatureRange: -55C ~ 125C; Tolerance: 10%; Value: 2.2uF; PartId: 19041; Supplier 1: Digi-Key; Supplier Part Number 1: 1276-3362-2-ND; ComponentLink1Description: Datasheet; ComponentLink1URL: //media.digikey.com/pdf/Data%20Sheets/Samsung%20PDFs/MLCC_Catalog_2015.pdf; ComponentLink2Description: Digi-Key Listing; ComponentLink2URL: https://www.digikey.com/product-detail/en/samsung-electro-mechanics-america-inc/CL32B225KCJSNNE/1276-3362-2-ND/3889020; TemperatureCoefficient: X7R; Voltage: 100V; Price: 0.2046; Device Package: 1210 (3225 Metric)
footprint CAP 1210/3225 - 2.8MM
pins: 1, 2

## CL32B226KAJNFNE
designator C?, comment 22uF
CAP CER 22UF 25V X7R 1210; Part Number: CL32B226KAJNFNE; Manufacturer: Samsung Electro-Mechanics America, Inc.; TemperatureRange: -55C ~ 125C; Tolerance: 10%; Value: 22uF; PartId: 19101; Supplier 1: Digi-Key; Supplier Part Number 1: 1276-3391-2-ND; ComponentLink1Description: Datasheet; ComponentLink1URL: http://www.samsungsem.com/kr/front/downloadcms.do?path=/kr/support/product-search/mlcc/__icsFiles/afieldfile/2014/11/05&fileName=C_CL32B226KAJNFNE.pdf; ComponentLink2Description: Digi-Key Listing; ComponentLink2URL: https://www.digikey.com/product-detail/en/samsung-electro-mechanics-america-inc/CL32B226KAJNFNE/1276-3391-2-ND/3889049; TemperatureCoefficient: X7R; Voltage: 25V; Price: 0.3852; Device Package: 1210 (3225 Metric)
footprint CAP 1210/3225 - 2.8MM
pins: 1, 2

## CL32B226KAJNNNE
designator C?, comment 22uF
CAP CER 22UF 25V X7R 1210; Part Number: CL32B226KAJNNNE; Manufacturer: Samsung Electro-Mechanics America, Inc.; TemperatureRange: -55C ~ 125C; Tolerance: 10%; Value: 22uF; PartId: 19107; Supplier 1: Digi-Key; Supplier Part Number 1: 1276-3392-2-ND; ComponentLink1Description: Datasheet; ComponentLink1URL: http://www.samsungsem.com/kr/support/product-search/mlcc/__icsFiles/afieldfile/2016/08/18/S_CL32B226KAJNNNE.pdf; ComponentLink2Description: Digi-Key Listing; ComponentLink2URL: https://www.digikey.com/product-detail/en/samsung-electro-mechanics-america-inc/CL32B226KAJNNNE/1276-3392-2-ND/3889050; TemperatureCoefficient: X7R; Voltage: 25V; Price: 0.4005; Device Package: 1210 (3225 Metric)
footprint CAP 1210/3225 - 2.8MM
pins: 1, 2

## CL32B226KOJNNNE
designator C?, comment 22uF
CAP CER 22UF 16V X7R 1210; Part Number: CL32B226KOJNNNE; Manufacturer: Samsung Electro-Mechanics America, Inc.; TemperatureRange: -55C ~ 125C; Tolerance: 10%; Value: 22uF; PartId: 19082; Supplier 1: Digi-Key; Supplier Part Number 1: 1276-1855-2-ND; ComponentLink1Description: Datasheet; ComponentLink1URL: http://www.samsungsem.com/kr/front/downloadcms.do?path=/kr/support/product-search/mlcc/__icsFiles/afieldfile/2014/11/05&fileName=C_CL32B226KOJNNNE.pdf; ComponentLink2Description: Digi-Key Listing; ComponentLink2URL: https://www.digikey.com/product-detail/en/samsung-electro-mechanics-america-inc/CL32B226KOJNNNE/1276-1855-2-ND/3887513; TemperatureCoefficient: X7R; Voltage: 16V; Price: 0.325; Device Package: 1210 (3225 Metric)
footprint CAP 1210/3225 - 2.8MM
pins: 1, 2

## CL32B226KOJVPNE
designator C?, comment 22uF
CAP CER 22UF 16V X7R 1210; Part Number: CL32B226KOJVPNE; Manufacturer: Samsung Electro-Mechanics America, Inc.; TemperatureRange: -55C ~ 125C; Tolerance: 10%; Value: 22uF; PartId: 18553; Supplier 1: Digi-Key; Supplier Part Number 1: 1276-6817-2-ND; ComponentLink1Description: Datasheet; ComponentLink1URL: //media.digikey.com/pdf/Data%20Sheets/Samsung%20PDFs/MLCC_Catalog_2015.pdf; ComponentLink2Description: Digi-Key Listing; ComponentLink2URL: https://www.digikey.com/product-detail/en/samsung-electro-mechanics-america-inc/CL32B226KOJVPNE/1276-6817-2-ND/5961301; TemperatureCoefficient: X7R; Voltage: 16V; Price: 0.3974; Device Package: 1210 (3225 Metric)
footprint CAP 1210/3225 - 1.8MM
pins: 1, 2

## CL32B334KBFNNNE
designator C?, comment 0.33uF
CAP CER 0.33UF 50V X7R 1210; Part Number: CL32B334KBFNNNE; Manufacturer: Samsung Electro-Mechanics America, Inc.; TemperatureRange: -55C ~ 125C; Tolerance: 10%; Value: 0.33uF; PartId: 18317; Supplier 1: Digi-Key; Supplier Part Number 1: 1276-3334-2-ND; ComponentLink1Description: Datasheet; ComponentLink1URL: http://www.samsungsem.com/kr/front/downloadcms.do?path=/kr/support/product-search/mlcc/__icsFiles/afieldfile/2014/11/05&fileName=C_CL32B334KBFNNNE.pdf; ComponentLink2Description: Digi-Key Listing; ComponentLink2URL: https://www.digikey.com/product-detail/en/samsung-electro-mechanics-america-inc/CL32B334KBFNNNE/1276-3334-2-ND/3888992; TemperatureCoefficient: X7R; Voltage: 50V; Price: 0.1422; Device Package: 1210 (3225 Metric)
footprint CAP 1210/3225 - 1.6MM
pins: 1, 2

## CL32B473KDHNNNE
designator C?, comment 0.047uF
CAP CER 0.047UF 200V X7R 1210; Part Number: CL32B473KDHNNNE; Manufacturer: Samsung Electro-Mechanics America, Inc.; TemperatureRange: -55C ~ 125C; Tolerance: 10%; Value: 0.047uF; PartId: 18540; Supplier 1: Digi-Key; Supplier Part Number 1: 1276-3336-2-ND; ComponentLink1Description: Datasheet; ComponentLink1URL: http://www.samsungsem.com/kr/support/product-search/mlcc/__icsFiles/afieldfile/2016/08/18/S_CL32B473KDHNNNE.pdf; ComponentLink2Description: Digi-Key Listing; ComponentLink2URL: https://www.digikey.com/product-detail/en/samsung-electro-mechanics-america-inc/CL32B473KDHNNNE/1276-3336-2-ND/3888994; TemperatureCoefficient: X7R; Voltage: 200V; Price: 0.1004; Device Package: 1210 (3225 Metric)
footprint CAP 1210/3225 - 1.8MM
pins: 1, 2

## CL32B473KDHNNWE
designator C?, comment 0.047uF
CAP CER 0.047UF 200V X7R 1210; Part Number: CL32B473KDHNNWE; Manufacturer: Samsung Electro-Mechanics America, Inc.; TemperatureRange: -55C ~ 125C; Tolerance: 10%; Value: 0.047uF; PartId: 18473; Supplier 1: Digi-Key; Supplier Part Number 1: 1276-3337-2-ND; ComponentLink1Description: Datasheet; ComponentLink1URL: //media.digikey.com/pdf/Data%20Sheets/Samsung%20PDFs/MLCC_Catalog_2015.pdf; ComponentLink2Description: Digi-Key Listing; ComponentLink2URL: https://www.digikey.com/product-detail/en/samsung-electro-mechanics-america-inc/CL32B473KDHNNWE/1276-3337-2-ND/3888995; TemperatureCoefficient: X7R; Voltage: 200V; Price: 0.221; Device Package: 1210 (3225 Metric)
footprint CAP 1210/3225 - 1.8MM
pins: 1, 2

## CL32B473KEHNNNE
designator C?, comment 0.047uF
CAP CER 0.047UF 250V X7R 1210; Part Number: CL32B473KEHNNNE; Manufacturer: Samsung Electro-Mechanics America, Inc.; TemperatureRange: -55C ~ 125C; Tolerance: 10%; Value: 0.047uF; PartId: 18550; Supplier 1: Digi-Key; Supplier Part Number 1: 1276-3338-2-ND; ComponentLink1Description: Datasheet; ComponentLink1URL: http://www.samsungsem.com/kr/front/downloadcms.do?path=/kr/support/product-search/mlcc/__icsFiles/afieldfile/2014/11/05&fileName=C_CL32B473KEHNNNE.pdf; ComponentLink2Description: Digi-Key Listing; ComponentLink2URL: https://www.digikey.com/product-detail/en/samsung-electro-mechanics-america-inc/CL32B473KEHNNNE/1276-3338-2-ND/3888996; TemperatureCoefficient: X7R; Voltage: 250V; Price: 0.1069; Device Package: 1210 (3225 Metric)
footprint CAP 1210/3225 - 1.8MM
pins: 1, 2

## CL32B473KEHNNWE
designator C?, comment 0.047uF
CAP CER 0.047UF 250V X7R 1210; Part Number: CL32B473KEHNNWE; Manufacturer: Samsung Electro-Mechanics America, Inc.; TemperatureRange: -55C ~ 125C; Tolerance: 10%; Value: 0.047uF; PartId: 18502; Supplier 1: Digi-Key; Supplier Part Number 1: 1276-3339-2-ND; ComponentLink1Description: Datasheet; ComponentLink1URL: http://www.samsungsem.com/kr/front/downloadcms.do?path=/kr/support/product-search/mlcc/__icsFiles/afieldfile/2014/11/05&fileName=C_CL32B473KEHNNWE.pdf; ComponentLink2Description: Digi-Key Listing; ComponentLink2URL: https://www.digikey.com/product-detail/en/samsung-electro-mechanics-america-inc/CL32B473KEHNNWE/1276-3339-2-ND/3888997; TemperatureCoefficient: X7R; Voltage: 250V; Price: 0.221; Device Package: 1210 (3225 Metric)
footprint CAP 1210/3225 - 1.8MM
pins: 1, 2

## CL32B474JBFNNNE
designator C?, comment 0.47uF
CAP CER 0.47UF 50V X7R 1210; Part Number: CL32B474JBFNNNE; Manufacturer: Samsung Electro-Mechanics America, Inc.; TemperatureRange: -55C ~ 125C; Tolerance: 5%; Value: 0.47uF; PartId: 18324; Supplier 1: Digi-Key; Supplier Part Number 1: 1276-3340-2-ND; ComponentLink1Description: Datasheet; ComponentLink1URL: http://www.samsungsem.com/kr/front/downloadcms.do?path=/kr/support/product-search/mlcc/__icsFiles/afieldfile/2014/11/05&fileName=C_CL32B474JBFNNNE.pdf; ComponentLink2Description: Digi-Key Listing; ComponentLink2URL: https://www.digikey.com/product-detail/en/samsung-electro-mechanics-america-inc/CL32B474JBFNNNE/1276-3340-2-ND/3888998; TemperatureCoefficient: X7R; Voltage: 50V; Price: 0.2008; Device Package: 1210 (3225 Metric)
footprint CAP 1210/3225 - 1.6MM
pins: 1, 2

## CL32B474KBFNNNE
designator C?, comment 0.47uF
CAP CER 0.47UF 50V X7R 1210; Part Number: CL32B474KBFNNNE; Manufacturer: Samsung Electro-Mechanics America, Inc.; TemperatureRange: -55C ~ 125C; Tolerance: 10%; Value: 0.47uF; PartId: 18318; Supplier 1: Digi-Key; Supplier Part Number 1: 1276-1143-2-ND; ComponentLink1Description: Datasheet; ComponentLink1URL: http://www.samsungsem.com/kr/front/downloadcms.do?path=/kr/support/product-search/mlcc/__icsFiles/afieldfile/2014/11/05&fileName=C_CL32B474KBFNNNE.pdf; ComponentLink2Description: Digi-Key Listing; ComponentLink2URL: https://www.digikey.com/product-detail/en/samsung-electro-mechanics-america-inc/CL32B474KBFNNNE/1276-1143-2-ND/3886801; TemperatureCoefficient: X7R; Voltage: 50V; Price: 0.1506; Device Package: 1210 (3225 Metric)
footprint CAP 1210/3225 - 1.6MM
pins: 1, 2